# Altium schematic symbol library Converter_DCDC.SchLib: 947 symbols (part 2 of 12)
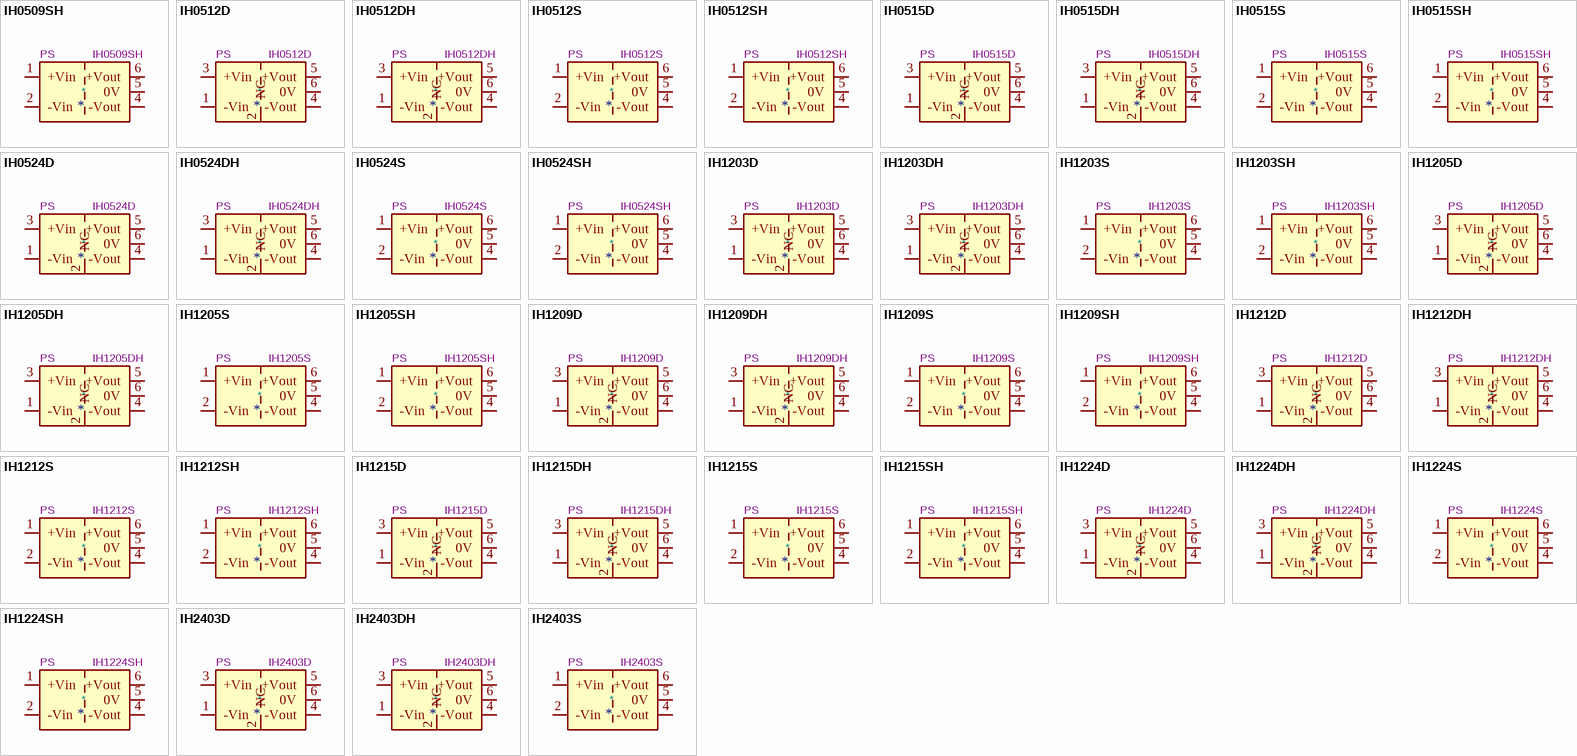
[diagram p24: symbols IH0509SH to IH2403S]

## IH0524S
designator *  value IH0524S  Reference: PS
XP Power 2W, 1000 VDC Isolated DC/DC Converter Module, Dual Output Voltage ±24V, ±42mA, 5V Input Voltage, SIP; ki_keywords: XP_POWER DC/DC isolated Converter module; ki_fp_filters: *XP?POWER?IHxxxxS*; Footprint: Converter_DCDC:Converter_DCDC_XP_POWER-IHxxxxS_THT; Datasheet: https://www.xppower.com/pdfs/SF_IH.pdf; Description_: XP Power 2W, 1000 VDC Isolated DC/DC Converter Module, Dual Output Voltage ±24V, ±42mA, 5V Input Voltage, SIP
pins: 1 +Vin, 2 -Vin, 4 -Vout, 5 0V, 6 +Vout

## IH0524SH
designator *  value IH0524SH  Reference: PS
XP Power 2W, 3000-6000 VDC Isolated DC/DC Converter Module, Dual Output Voltage ±24V, ±42mA, 5V Input Voltage, SIP; ki_keywords: XP_POWER DC/DC isolated Converter module; ki_fp_filters: *XP?POWER?IHxxxxSH*; Footprint: Converter_DCDC:Converter_DCDC_XP_POWER-IHxxxxSH_THT; Datasheet: https://www.xppower.com/pdfs/SF_IH.pdf; Description_: XP Power 2W, 3000-6000 VDC Isolated DC/DC Converter Module, Dual Output Voltage ±24V, ±42mA, 5V Input Voltage, SIP
pins: 1 +Vin, 2 -Vin, 4 -Vout, 5 0V, 6 +Vout

## IH1203D
designator *  value IH1203D  Reference: PS
XP Power 2W, 1000 VDC Isolated DC/DC Converter Module, Dual Output Voltage ±3.3V, ±200mA, 12V Input Voltage, DIP; ki_keywords: XP_POWER DC/DC isolated Converter module; ki_fp_filters: *XP?POWER?IHxxxxD*; Footprint: Converter_DCDC:Converter_DCDC_XP_POWER-IHxxxxD_THT; Datasheet: https://www.xppower.com/pdfs/SF_IH.pdf; Description_: XP Power 2W, 1000 VDC Isolated DC/DC Converter Module, Dual Output Voltage ±3.3V, ±200mA, 12V Input Voltage, DIP
pins: 1 -Vin, 2 NC, 3 +Vin, 4 -Vout, 5 +Vout, 6 0V

## IH1203DH
designator *  value IH1203DH  Reference: PS
XP Power 2W, 3000-6000 VDC Isolated DC/DC Converter Module, Dual Output Voltage ±3.3V, ±200mA, 12V Input Voltage, DIP; ki_keywords: XP_POWER DC/DC isolated Converter module; ki_fp_filters: *XP?POWER?IHxxxxDH*; Footprint: Converter_DCDC:Converter_DCDC_XP_POWER-IHxxxxDH_THT; Datasheet: https://www.xppower.com/pdfs/SF_IH.pdf; Description_: XP Power 2W, 3000-6000 VDC Isolated DC/DC Converter Module, Dual Output Voltage ±3.3V, ±200mA, 12V Input Voltage, DIP
pins: 1 -Vin, 2 NC, 3 +Vin, 4 -Vout, 5 +Vout, 6 0V

## IH1203S
designator *  value IH1203S  Reference: PS
XP Power 2W, 1000 VDC Isolated DC/DC Converter Module, Dual Output Voltage ±3.3V, ±200mA, 12V Input Voltage, SIP; ki_keywords: XP_POWER DC/DC isolated Converter module; ki_fp_filters: *XP?POWER?IHxxxxS*; Footprint: Converter_DCDC:Converter_DCDC_XP_POWER-IHxxxxS_THT; Datasheet: https://www.xppower.com/pdfs/SF_IH.pdf; Description_: XP Power 2W, 1000 VDC Isolated DC/DC Converter Module, Dual Output Voltage ±3.3V, ±200mA, 12V Input Voltage, SIP
pins: 1 +Vin, 2 -Vin, 4 -Vout, 5 0V, 6 +Vout

## IH1203SH
designator *  value IH1203SH  Reference: PS
XP Power 2W, 3000-6000 VDC Isolated DC/DC Converter Module, Dual Output Voltage ±3.3V, ±200mA, 12V Input Voltage, SIP; ki_keywords: XP_POWER DC/DC isolated Converter module; ki_fp_filters: *XP?POWER?IHxxxxSH*; Footprint: Converter_DCDC:Converter_DCDC_XP_POWER-IHxxxxSH_THT; Datasheet: https://www.xppower.com/pdfs/SF_IH.pdf; Description_: XP Power 2W, 3000-6000 VDC Isolated DC/DC Converter Module, Dual Output Voltage ±3.3V, ±200mA, 12V Input Voltage, SIP
pins: 1 +Vin, 2 -Vin, 4 -Vout, 5 0V, 6 +Vout

## IH1205D
designator *  value IH1205D  Reference: PS
XP Power 2W, 1000 VDC Isolated DC/DC Converter Module, Dual Output Voltage ±5V, ±200mA, 12V Input Voltage, DIP; ki_keywords: XP_POWER DC/DC isolated Converter module; ki_fp_filters: *XP?POWER?IHxxxxD*; Footprint: Converter_DCDC:Converter_DCDC_XP_POWER-IHxxxxD_THT; Datasheet: https://www.xppower.com/pdfs/SF_IH.pdf; Description_: XP Power 2W, 1000 VDC Isolated DC/DC Converter Module, Dual Output Voltage ±5V, ±200mA, 12V Input Voltage, DIP
pins: 1 -Vin, 2 NC, 3 +Vin, 4 -Vout, 5 +Vout, 6 0V

## IH1205DH
designator *  value IH1205DH  Reference: PS
XP Power 2W, 3000-6000 VDC Isolated DC/DC Converter Module, Dual Output Voltage ±5V, ±200mA, 12V Input Voltage, DIP; ki_keywords: XP_POWER DC/DC isolated Converter module; ki_fp_filters: *XP?POWER?IHxxxxDH*; Footprint: Converter_DCDC:Converter_DCDC_XP_POWER-IHxxxxDH_THT; Datasheet: https://www.xppower.com/pdfs/SF_IH.pdf; Description_: XP Power 2W, 3000-6000 VDC Isolated DC/DC Converter Module, Dual Output Voltage ±5V, ±200mA, 12V Input Voltage, DIP
pins: 1 -Vin, 2 NC, 3 +Vin, 4 -Vout, 5 +Vout, 6 0V

## IH1205S
designator *  value IH1205S  Reference: PS
XP Power 2W, 1000 VDC Isolated DC/DC Converter Module, Dual Output Voltage ±5V, ±200mA, 12V Input Voltage, SIP; ki_keywords: XP_POWER DC/DC isolated Converter module; ki_fp_filters: *XP?POWER?IHxxxxS*; Footprint: Converter_DCDC:Converter_DCDC_XP_POWER-IHxxxxS_THT; Datasheet: https://www.xppower.com/pdfs/SF_IH.pdf; Description_: XP Power 2W, 1000 VDC Isolated DC/DC Converter Module, Dual Output Voltage ±5V, ±200mA, 12V Input Voltage, SIP
pins: 1 +Vin, 2 -Vin, 4 -Vout, 5 0V, 6 +Vout

## IH1205SH
designator *  value IH1205SH  Reference: PS
XP Power 2W, 3000-6000 VDC Isolated DC/DC Converter Module, Dual Output Voltage ±5V, ±200mA, 12V Input Voltage, SIP; ki_keywords: XP_POWER DC/DC isolated Converter module; ki_fp_filters: *XP?POWER?IHxxxxSH*; Footprint: Converter_DCDC:Converter_DCDC_XP_POWER-IHxxxxSH_THT; Datasheet: https://www.xppower.com/pdfs/SF_IH.pdf; Description_: XP Power 2W, 3000-6000 VDC Isolated DC/DC Converter Module, Dual Output Voltage ±5V, ±200mA, 12V Input Voltage, SIP
pins: 1 +Vin, 2 -Vin, 4 -Vout, 5 0V, 6 +Vout

## IH1209D
designator *  value IH1209D  Reference: PS
XP Power 2W, 1000 VDC Isolated DC/DC Converter Module, Dual Output Voltage ±9V, ±111mA, 12V Input Voltage, DIP; ki_keywords: XP_POWER DC/DC isolated Converter module; ki_fp_filters: *XP?POWER?IHxxxxD*; Footprint: Converter_DCDC:Converter_DCDC_XP_POWER-IHxxxxD_THT; Datasheet: https://www.xppower.com/pdfs/SF_IH.pdf; Description_: XP Power 2W, 1000 VDC Isolated DC/DC Converter Module, Dual Output Voltage ±9V, ±111mA, 12V Input Voltage, DIP
pins: 1 -Vin, 2 NC, 3 +Vin, 4 -Vout, 5 +Vout, 6 0V

## IH1209DH
designator *  value IH1209DH  Reference: PS
XP Power 2W, 3000-6000 VDC Isolated DC/DC Converter Module, Dual Output Voltage ±9V, ±111mA, 12V Input Voltage, DIP; ki_keywords: XP_POWER DC/DC isolated Converter module; ki_fp_filters: *XP?POWER?IHxxxxDH*; Footprint: Converter_DCDC:Converter_DCDC_XP_POWER-IHxxxxDH_THT; Datasheet: https://www.xppower.com/pdfs/SF_IH.pdf; Description_: XP Power 2W, 3000-6000 VDC Isolated DC/DC Converter Module, Dual Output Voltage ±9V, ±111mA, 12V Input Voltage, DIP
pins: 1 -Vin, 2 NC, 3 +Vin, 4 -Vout, 5 +Vout, 6 0V

## IH1209S
designator *  value IH1209S  Reference: PS
XP Power 2W, 1000 VDC Isolated DC/DC Converter Module, Dual Output Voltage ±9V, ±111mA, 12V Input Voltage, SIP; ki_keywords: XP_POWER DC/DC isolated Converter module; ki_fp_filters: *XP?POWER?IHxxxxS*; Footprint: Converter_DCDC:Converter_DCDC_XP_POWER-IHxxxxS_THT; Datasheet: https://www.xppower.com/pdfs/SF_IH.pdf; Description_: XP Power 2W, 1000 VDC Isolated DC/DC Converter Module, Dual Output Voltage ±9V, ±111mA, 12V Input Voltage, SIP
pins: 1 +Vin, 2 -Vin, 4 -Vout, 5 0V, 6 +Vout

## IH1209SH
designator *  value IH1209SH  Reference: PS
XP Power 2W, 3000-6000 VDC Isolated DC/DC Converter Module, Dual Output Voltage ±9V, ±111mA, 12V Input Voltage, SIP; ki_keywords: XP_POWER DC/DC isolated Converter module; ki_fp_filters: *XP?POWER?IHxxxxSH*; Footprint: Converter_DCDC:Converter_DCDC_XP_POWER-IHxxxxSH_THT; Datasheet: https://www.xppower.com/pdfs/SF_IH.pdf; Description_: XP Power 2W, 3000-6000 VDC Isolated DC/DC Converter Module, Dual Output Voltage ±9V, ±111mA, 12V Input Voltage, SIP
pins: 1 +Vin, 2 -Vin, 4 -Vout, 5 0V, 6 +Vout

## IH1212D
designator *  value IH1212D  Reference: PS
XP Power 2W, 1000 VDC Isolated DC/DC Converter Module, Dual Output Voltage ±12V, ±84mA, 12V Input Voltage, DIP; ki_keywords: XP_POWER DC/DC isolated Converter module; ki_fp_filters: *XP?POWER?IHxxxxD*; Footprint: Converter_DCDC:Converter_DCDC_XP_POWER-IHxxxxD_THT; Datasheet: https://www.xppower.com/pdfs/SF_IH.pdf; Description_: XP Power 2W, 1000 VDC Isolated DC/DC Converter Module, Dual Output Voltage ±12V, ±84mA, 12V Input Voltage, DIP
pins: 1 -Vin, 2 NC, 3 +Vin, 4 -Vout, 5 +Vout, 6 0V

## IH1212DH
designator *  value IH1212DH  Reference: PS
XP Power 2W, 3000-6000 VDC Isolated DC/DC Converter Module, Dual Output Voltage ±12V, ±84mA, 12V Input Voltage, DIP; ki_keywords: XP_POWER DC/DC isolated Converter module; ki_fp_filters: *XP?POWER?IHxxxxDH*; Footprint: Converter_DCDC:Converter_DCDC_XP_POWER-IHxxxxDH_THT; Datasheet: https://www.xppower.com/pdfs/SF_IH.pdf; Description_: XP Power 2W, 3000-6000 VDC Isolated DC/DC Converter Module, Dual Output Voltage ±12V, ±84mA, 12V Input Voltage, DIP
pins: 1 -Vin, 2 NC, 3 +Vin, 4 -Vout, 5 +Vout, 6 0V

## IH1212S
designator *  value IH1212S  Reference: PS
XP Power 2W, 1000 VDC Isolated DC/DC Converter Module, Dual Output Voltage ±12V, ±84mA, 12V Input Voltage, SIP; ki_keywords: XP_POWER DC/DC isolated Converter module; ki_fp_filters: *XP?POWER?IHxxxxS*; Footprint: Converter_DCDC:Converter_DCDC_XP_POWER-IHxxxxS_THT; Datasheet: https://www.xppower.com/pdfs/SF_IH.pdf; Description_: XP Power 2W, 1000 VDC Isolated DC/DC Converter Module, Dual Output Voltage ±12V, ±84mA, 12V Input Voltage, SIP
pins: 1 +Vin, 2 -Vin, 4 -Vout, 5 0V, 6 +Vout

## IH1212SH
designator *  value IH1212SH  Reference: PS
XP Power 2W, 3000-6000 VDC Isolated DC/DC Converter Module, Dual Output Voltage ±12V, ±84mA, 12V Input Voltage, SIP; ki_keywords: XP_POWER DC/DC isolated Converter module; ki_fp_filters: *XP?POWER?IHxxxxSH*; Footprint: Converter_DCDC:Converter_DCDC_XP_POWER-IHxxxxSH_THT; Datasheet: https://www.xppower.com/pdfs/SF_IH.pdf; Description_: XP Power 2W, 3000-6000 VDC Isolated DC/DC Converter Module, Dual Output Voltage ±12V, ±84mA, 12V Input Voltage, SIP
pins: 1 +Vin, 2 -Vin, 4 -Vout, 5 0V, 6 +Vout

## IH1215D
designator *  value IH1215D  Reference: PS
XP Power 2W, 1000 VDC Isolated DC/DC Converter Module, Dual Output Voltage ±15V, ±66mA, 12V Input Voltage, DIP; ki_keywords: XP_POWER DC/DC isolated Converter module; ki_fp_filters: *XP?POWER?IHxxxxD*; Footprint: Converter_DCDC:Converter_DCDC_XP_POWER-IHxxxxD_THT; Datasheet: https://www.xppower.com/pdfs/SF_IH.pdf; Description_: XP Power 2W, 1000 VDC Isolated DC/DC Converter Module, Dual Output Voltage ±15V, ±66mA, 12V Input Voltage, DIP
pins: 1 -Vin, 2 NC, 3 +Vin, 4 -Vout, 5 +Vout, 6 0V

## IH1215DH
designator *  value IH1215DH  Reference: PS
XP Power 2W, 3000-6000 VDC Isolated DC/DC Converter Module, Dual Output Voltage ±15V, ±66mA, 12V Input Voltage, DIP; ki_keywords: XP_POWER DC/DC isolated Converter module; ki_fp_filters: *XP?POWER?IHxxxxDH*; Footprint: Converter_DCDC:Converter_DCDC_XP_POWER-IHxxxxDH_THT; Datasheet: https://www.xppower.com/pdfs/SF_IH.pdf; Description_: XP Power 2W, 3000-6000 VDC Isolated DC/DC Converter Module, Dual Output Voltage ±15V, ±66mA, 12V Input Voltage, DIP
pins: 1 -Vin, 2 NC, 3 +Vin, 4 -Vout, 5 +Vout, 6 0V

## IH1215S
designator *  value IH1215S  Reference: PS
XP Power 2W, 1000 VDC Isolated DC/DC Converter Module, Dual Output Voltage ±15V, ±66mA, 12V Input Voltage, SIP; ki_keywords: XP_POWER DC/DC isolated Converter module; ki_fp_filters: *XP?POWER?IHxxxxS*; Footprint: Converter_DCDC:Converter_DCDC_XP_POWER-IHxxxxS_THT; Datasheet: https://www.xppower.com/pdfs/SF_IH.pdf; Description_: XP Power 2W, 1000 VDC Isolated DC/DC Converter Module, Dual Output Voltage ±15V, ±66mA, 12V Input Voltage, SIP
pins: 1 +Vin, 2 -Vin, 4 -Vout, 5 0V, 6 +Vout

## IH1215SH
designator *  value IH1215SH  Reference: PS
XP Power 2W, 3000-6000 VDC Isolated DC/DC Converter Module, Dual Output Voltage ±15V, ±66mA, 12V Input Voltage, SIP; ki_keywords: XP_POWER DC/DC isolated Converter module; ki_fp_filters: *XP?POWER?IHxxxxSH*; Footprint: Converter_DCDC:Converter_DCDC_XP_POWER-IHxxxxSH_THT; Datasheet: https://www.xppower.com/pdfs/SF_IH.pdf; Description_: XP Power 2W, 3000-6000 VDC Isolated DC/DC Converter Module, Dual Output Voltage ±15V, ±66mA, 12V Input Voltage, SIP
pins: 1 +Vin, 2 -Vin, 4 -Vout, 5 0V, 6 +Vout

## IH1224D
designator *  value IH1224D  Reference: PS
XP Power 2W, 1000 VDC Isolated DC/DC Converter Module, Dual Output Voltage ±24V, ±42mA, 12V Input Voltage, DIP; ki_keywords: XP_POWER DC/DC isolated Converter module; ki_fp_filters: *XP?POWER?IHxxxxD*; Footprint: Converter_DCDC:Converter_DCDC_XP_POWER-IHxxxxD_THT; Datasheet: https://www.xppower.com/pdfs/SF_IH.pdf; Description_: XP Power 2W, 1000 VDC Isolated DC/DC Converter Module, Dual Output Voltage ±24V, ±42mA, 12V Input Voltage, DIP
pins: 1 -Vin, 2 NC, 3 +Vin, 4 -Vout, 5 +Vout, 6 0V

## IH1224DH
designator *  value IH1224DH  Reference: PS
XP Power 2W, 3000-6000 VDC Isolated DC/DC Converter Module, Dual Output Voltage ±24V, ±42mA, 12V Input Voltage, DIP; ki_keywords: XP_POWER DC/DC isolated Converter module; ki_fp_filters: *XP?POWER?IHxxxxDH*; Footprint: Converter_DCDC:Converter_DCDC_XP_POWER-IHxxxxDH_THT; Datasheet: https://www.xppower.com/pdfs/SF_IH.pdf; Description_: XP Power 2W, 3000-6000 VDC Isolated DC/DC Converter Module, Dual Output Voltage ±24V, ±42mA, 12V Input Voltage, DIP
pins: 1 -Vin, 2 NC, 3 +Vin, 4 -Vout, 5 +Vout, 6 0V

## IH1224S
designator *  value IH1224S  Reference: PS
XP Power 2W, 1000 VDC Isolated DC/DC Converter Module, Dual Output Voltage ±24V, ±42mA, 12V Input Voltage, SIP; ki_keywords: XP_POWER DC/DC isolated Converter module; ki_fp_filters: *XP?POWER?IHxxxxS*; Footprint: Converter_DCDC:Converter_DCDC_XP_POWER-IHxxxxS_THT; Datasheet: https://www.xppower.com/pdfs/SF_IH.pdf; Description_: XP Power 2W, 1000 VDC Isolated DC/DC Converter Module, Dual Output Voltage ±24V, ±42mA, 12V Input Voltage, SIP
pins: 1 +Vin, 2 -Vin, 4 -Vout, 5 0V, 6 +Vout

## IH1224SH
designator *  value IH1224SH  Reference: PS
XP Power 2W, 3000-6000 VDC Isolated DC/DC Converter Module, Dual Output Voltage ±24V, ±42mA, 12V Input Voltage, SIP; ki_keywords: XP_POWER DC/DC isolated Converter module; ki_fp_filters: *XP?POWER?IHxxxxSH*; Footprint: Converter_DCDC:Converter_DCDC_XP_POWER-IHxxxxSH_THT; Datasheet: https://www.xppower.com/pdfs/SF_IH.pdf; Description_: XP Power 2W, 3000-6000 VDC Isolated DC/DC Converter Module, Dual Output Voltage ±24V, ±42mA, 12V Input Voltage, SIP
pins: 1 +Vin, 2 -Vin, 4 -Vout, 5 0V, 6 +Vout

## IH2403D
designator *  value IH2403D  Reference: PS
XP Power 2W, 1000 VDC Isolated DC/DC Converter Module, Dual Output Voltage ±3.3V, ±200mA, 24V Input Voltage, DIP; ki_keywords: XP_POWER DC/DC isolated Converter module; ki_fp_filters: *XP?POWER?IHxxxxD*; Footprint: Converter_DCDC:Converter_DCDC_XP_POWER-IHxxxxD_THT; Datasheet: https://www.xppower.com/pdfs/SF_IH.pdf; Description_: XP Power 2W, 1000 VDC Isolated DC/DC Converter Module, Dual Output Voltage ±3.3V, ±200mA, 24V Input Voltage, DIP
pins: 1 -Vin, 2 NC, 3 +Vin, 4 -Vout, 5 +Vout, 6 0V

## IH2403DH
designator *  value IH2403DH  Reference: PS
XP Power 2W, 3000-6000 VDC Isolated DC/DC Converter Module, Dual Output Voltage ±3.3V, ±200mA, 24V Input Voltage, DIP; ki_keywords: XP_POWER DC/DC isolated Converter module; ki_fp_filters: *XP?POWER?IHxxxxDH*; Footprint: Converter_DCDC:Converter_DCDC_XP_POWER-IHxxxxDH_THT; Datasheet: https://www.xppower.com/pdfs/SF_IH.pdf; Description_: XP Power 2W, 3000-6000 VDC Isolated DC/DC Converter Module, Dual Output Voltage ±3.3V, ±200mA, 24V Input Voltage, DIP
pins: 1 -Vin, 2 NC, 3 +Vin, 4 -Vout, 5 +Vout, 6 0V

## IH2403S
designator *  value IH2403S  Reference: PS
XP Power 2W, 1000 VDC Isolated DC/DC Converter Module, Dual Output Voltage ±3.3V, ±200mA, 24V Input Voltage, SIP; ki_keywords: XP_POWER DC/DC isolated Converter module; ki_fp_filters: *XP?POWER?IHxxxxS*; Footprint: Converter_DCDC:Converter_DCDC_XP_POWER-IHxxxxS_THT; Datasheet: https://www.xppower.com/pdfs/SF_IH.pdf; Description_: XP Power 2W, 1000 VDC Isolated DC/DC Converter Module, Dual Output Voltage ±3.3V, ±200mA, 24V Input Voltage, SIP
pins: 1 +Vin, 2 -Vin, 4 -Vout, 5 0V, 6 +Vout

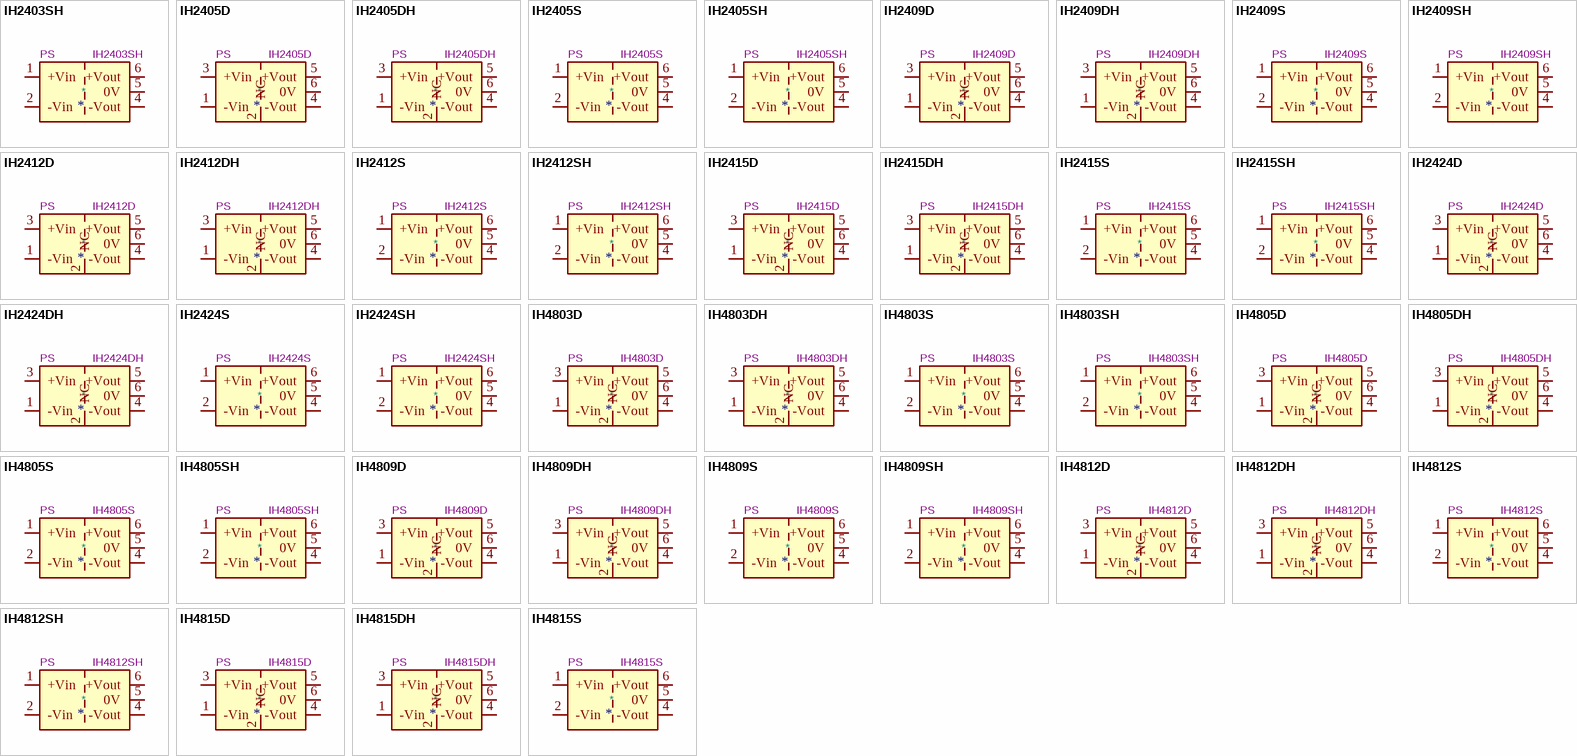
[diagram p3: symbols IH2403SH to IH4815S]

## IH2403SH
designator *  value IH2403SH  Reference: PS
XP Power 2W, 3000-6000 VDC Isolated DC/DC Converter Module, Dual Output Voltage ±3.3V, ±200mA, 24V Input Voltage, SIP; ki_keywords: XP_POWER DC/DC isolated Converter module; ki_fp_filters: *XP?POWER?IHxxxxSH*; Footprint: Converter_DCDC:Converter_DCDC_XP_POWER-IHxxxxSH_THT; Datasheet: https://www.xppower.com/pdfs/SF_IH.pdf; Description_: XP Power 2W, 3000-6000 VDC Isolated DC/DC Converter Module, Dual Output Voltage ±3.3V, ±200mA, 24V Input Voltage, SIP
pins: 1 +Vin, 2 -Vin, 4 -Vout, 5 0V, 6 +Vout

## IH2405D
designator *  value IH2405D  Reference: PS
XP Power 2W, 1000 VDC Isolated DC/DC Converter Module, Dual Output Voltage ±5V, ±200mA, 24V Input Voltage, DIP; ki_keywords: XP_POWER DC/DC isolated Converter module; ki_fp_filters: *XP?POWER?IHxxxxD*; Footprint: Converter_DCDC:Converter_DCDC_XP_POWER-IHxxxxD_THT; Datasheet: https://www.xppower.com/pdfs/SF_IH.pdf; Description_: XP Power 2W, 1000 VDC Isolated DC/DC Converter Module, Dual Output Voltage ±5V, ±200mA, 24V Input Voltage, DIP
pins: 1 -Vin, 2 NC, 3 +Vin, 4 -Vout, 5 +Vout, 6 0V

## IH2405DH
designator *  value IH2405DH  Reference: PS
XP Power 2W, 3000-6000 VDC Isolated DC/DC Converter Module, Dual Output Voltage ±5V, ±200mA, 24V Input Voltage, DIP; ki_keywords: XP_POWER DC/DC isolated Converter module; ki_fp_filters: *XP?POWER?IHxxxxDH*; Footprint: Converter_DCDC:Converter_DCDC_XP_POWER-IHxxxxDH_THT; Datasheet: https://www.xppower.com/pdfs/SF_IH.pdf; Description_: XP Power 2W, 3000-6000 VDC Isolated DC/DC Converter Module, Dual Output Voltage ±5V, ±200mA, 24V Input Voltage, DIP
pins: 1 -Vin, 2 NC, 3 +Vin, 4 -Vout, 5 +Vout, 6 0V

## IH2405S
designator *  value IH2405S  Reference: PS
XP Power 2W, 1000 VDC Isolated DC/DC Converter Module, Dual Output Voltage ±5V, ±200mA, 24V Input Voltage, SIP; ki_keywords: XP_POWER DC/DC isolated Converter module; ki_fp_filters: *XP?POWER?IHxxxxS*; Footprint: Converter_DCDC:Converter_DCDC_XP_POWER-IHxxxxS_THT; Datasheet: https://www.xppower.com/pdfs/SF_IH.pdf; Description_: XP Power 2W, 1000 VDC Isolated DC/DC Converter Module, Dual Output Voltage ±5V, ±200mA, 24V Input Voltage, SIP
pins: 1 +Vin, 2 -Vin, 4 -Vout, 5 0V, 6 +Vout

## IH2405SH
designator *  value IH2405SH  Reference: PS
XP Power 2W, 3000-6000 VDC Isolated DC/DC Converter Module, Dual Output Voltage ±5V, ±200mA, 24V Input Voltage, SIP; ki_keywords: XP_POWER DC/DC isolated Converter module; ki_fp_filters: *XP?POWER?IHxxxxSH*; Footprint: Converter_DCDC:Converter_DCDC_XP_POWER-IHxxxxSH_THT; Datasheet: https://www.xppower.com/pdfs/SF_IH.pdf; Description_: XP Power 2W, 3000-6000 VDC Isolated DC/DC Converter Module, Dual Output Voltage ±5V, ±200mA, 24V Input Voltage, SIP
pins: 1 +Vin, 2 -Vin, 4 -Vout, 5 0V, 6 +Vout

## IH2409D
designator *  value IH2409D  Reference: PS
XP Power 2W, 1000 VDC Isolated DC/DC Converter Module, Dual Output Voltage ±9V, ±111mA, 24V Input Voltage, DIP; ki_keywords: XP_POWER DC/DC isolated Converter module; ki_fp_filters: *XP?POWER?IHxxxxD*; Footprint: Converter_DCDC:Converter_DCDC_XP_POWER-IHxxxxD_THT; Datasheet: https://www.xppower.com/pdfs/SF_IH.pdf; Description_: XP Power 2W, 1000 VDC Isolated DC/DC Converter Module, Dual Output Voltage ±9V, ±111mA, 24V Input Voltage, DIP
pins: 1 -Vin, 2 NC, 3 +Vin, 4 -Vout, 5 +Vout, 6 0V

## IH2409DH
designator *  value IH2409DH  Reference: PS
XP Power 2W, 3000-6000 VDC Isolated DC/DC Converter Module, Dual Output Voltage ±9V, ±111mA, 24V Input Voltage, DIP; ki_keywords: XP_POWER DC/DC isolated Converter module; ki_fp_filters: *XP?POWER?IHxxxxDH*; Footprint: Converter_DCDC:Converter_DCDC_XP_POWER-IHxxxxDH_THT; Datasheet: https://www.xppower.com/pdfs/SF_IH.pdf; Description_: XP Power 2W, 3000-6000 VDC Isolated DC/DC Converter Module, Dual Output Voltage ±9V, ±111mA, 24V Input Voltage, DIP
pins: 1 -Vin, 2 NC, 3 +Vin, 4 -Vout, 5 +Vout, 6 0V

## IH2409S
designator *  value IH2409S  Reference: PS
XP Power 2W, 1000 VDC Isolated DC/DC Converter Module, Dual Output Voltage ±9V, ±111mA, 24V Input Voltage, SIP; ki_keywords: XP_POWER DC/DC isolated Converter module; ki_fp_filters: *XP?POWER?IHxxxxS*; Footprint: Converter_DCDC:Converter_DCDC_XP_POWER-IHxxxxS_THT; Datasheet: https://www.xppower.com/pdfs/SF_IH.pdf; Description_: XP Power 2W, 1000 VDC Isolated DC/DC Converter Module, Dual Output Voltage ±9V, ±111mA, 24V Input Voltage, SIP
pins: 1 +Vin, 2 -Vin, 4 -Vout, 5 0V, 6 +Vout

## IH2409SH
designator *  value IH2409SH  Reference: PS
XP Power 2W, 3000-6000 VDC Isolated DC/DC Converter Module, Dual Output Voltage ±9V, ±111mA, 24V Input Voltage, SIP; ki_keywords: XP_POWER DC/DC isolated Converter module; ki_fp_filters: *XP?POWER?IHxxxxSH*; Footprint: Converter_DCDC:Converter_DCDC_XP_POWER-IHxxxxSH_THT; Datasheet: https://www.xppower.com/pdfs/SF_IH.pdf; Description_: XP Power 2W, 3000-6000 VDC Isolated DC/DC Converter Module, Dual Output Voltage ±9V, ±111mA, 24V Input Voltage, SIP
pins: 1 +Vin, 2 -Vin, 4 -Vout, 5 0V, 6 +Vout

## IH2412D
designator *  value IH2412D  Reference: PS
XP Power 2W, 1000 VDC Isolated DC/DC Converter Module, Dual Output Voltage ±12V, ±84mA, 24V Input Voltage, DIP; ki_keywords: XP_POWER DC/DC isolated Converter module; ki_fp_filters: *XP?POWER?IHxxxxD*; Footprint: Converter_DCDC:Converter_DCDC_XP_POWER-IHxxxxD_THT; Datasheet: https://www.xppower.com/pdfs/SF_IH.pdf; Description_: XP Power 2W, 1000 VDC Isolated DC/DC Converter Module, Dual Output Voltage ±12V, ±84mA, 24V Input Voltage, DIP
pins: 1 -Vin, 2 NC, 3 +Vin, 4 -Vout, 5 +Vout, 6 0V

## IH2412DH
designator *  value IH2412DH  Reference: PS
XP Power 2W, 3000-6000 VDC Isolated DC/DC Converter Module, Dual Output Voltage ±12V, ±84mA, 24V Input Voltage, DIP; ki_keywords: XP_POWER DC/DC isolated Converter module; ki_fp_filters: *XP?POWER?IHxxxxDH*; Footprint: Converter_DCDC:Converter_DCDC_XP_POWER-IHxxxxDH_THT; Datasheet: https://www.xppower.com/pdfs/SF_IH.pdf; Description_: XP Power 2W, 3000-6000 VDC Isolated DC/DC Converter Module, Dual Output Voltage ±12V, ±84mA, 24V Input Voltage, DIP
pins: 1 -Vin, 2 NC, 3 +Vin, 4 -Vout, 5 +Vout, 6 0V

## IH2412S
designator *  value IH2412S  Reference: PS
XP Power 2W, 1000 VDC Isolated DC/DC Converter Module, Dual Output Voltage ±12V, ±84mA, 24V Input Voltage, SIP; ki_keywords: XP_POWER DC/DC isolated Converter module; ki_fp_filters: *XP?POWER?IHxxxxS*; Footprint: Converter_DCDC:Converter_DCDC_XP_POWER-IHxxxxS_THT; Datasheet: https://www.xppower.com/pdfs/SF_IH.pdf; Description_: XP Power 2W, 1000 VDC Isolated DC/DC Converter Module, Dual Output Voltage ±12V, ±84mA, 24V Input Voltage, SIP
pins: 1 +Vin, 2 -Vin, 4 -Vout, 5 0V, 6 +Vout

## IH2412SH
designator *  value IH2412SH  Reference: PS
XP Power 2W, 3000-6000 VDC Isolated DC/DC Converter Module, Dual Output Voltage ±12V, ±84mA, 24V Input Voltage, SIP; ki_keywords: XP_POWER DC/DC isolated Converter module; ki_fp_filters: *XP?POWER?IHxxxxSH*; Footprint: Converter_DCDC:Converter_DCDC_XP_POWER-IHxxxxSH_THT; Datasheet: https://www.xppower.com/pdfs/SF_IH.pdf; Description_: XP Power 2W, 3000-6000 VDC Isolated DC/DC Converter Module, Dual Output Voltage ±12V, ±84mA, 24V Input Voltage, SIP
pins: 1 +Vin, 2 -Vin, 4 -Vout, 5 0V, 6 +Vout

## IH2415D
designator *  value IH2415D  Reference: PS
XP Power 2W, 1000 VDC Isolated DC/DC Converter Module, Dual Output Voltage ±15V, ±66mA, 24V Input Voltage, DIP; ki_keywords: XP_POWER DC/DC isolated Converter module; ki_fp_filters: *XP?POWER?IHxxxxD*; Footprint: Converter_DCDC:Converter_DCDC_XP_POWER-IHxxxxD_THT; Datasheet: https://www.xppower.com/pdfs/SF_IH.pdf; Description_: XP Power 2W, 1000 VDC Isolated DC/DC Converter Module, Dual Output Voltage ±15V, ±66mA, 24V Input Voltage, DIP
pins: 1 -Vin, 2 NC, 3 +Vin, 4 -Vout, 5 +Vout, 6 0V

## IH2415DH
designator *  value IH2415DH  Reference: PS
XP Power 2W, 3000-6000 VDC Isolated DC/DC Converter Module, Dual Output Voltage ±15V, ±66mA, 24V Input Voltage, DIP; ki_keywords: XP_POWER DC/DC isolated Converter module; ki_fp_filters: *XP?POWER?IHxxxxDH*; Footprint: Converter_DCDC:Converter_DCDC_XP_POWER-IHxxxxDH_THT; Datasheet: https://www.xppower.com/pdfs/SF_IH.pdf; Description_: XP Power 2W, 3000-6000 VDC Isolated DC/DC Converter Module, Dual Output Voltage ±15V, ±66mA, 24V Input Voltage, DIP
pins: 1 -Vin, 2 NC, 3 +Vin, 4 -Vout, 5 +Vout, 6 0V

## IH2415S
designator *  value IH2415S  Reference: PS
XP Power 2W, 1000 VDC Isolated DC/DC Converter Module, Dual Output Voltage ±15V, ±66mA, 24V Input Voltage, SIP; ki_keywords: XP_POWER DC/DC isolated Converter module; ki_fp_filters: *XP?POWER?IHxxxxS*; Footprint: Converter_DCDC:Converter_DCDC_XP_POWER-IHxxxxS_THT; Datasheet: https://www.xppower.com/pdfs/SF_IH.pdf; Description_: XP Power 2W, 1000 VDC Isolated DC/DC Converter Module, Dual Output Voltage ±15V, ±66mA, 24V Input Voltage, SIP
pins: 1 +Vin, 2 -Vin, 4 -Vout, 5 0V, 6 +Vout

## IH2415SH
designator *  value IH2415SH  Reference: PS
XP Power 2W, 3000-6000 VDC Isolated DC/DC Converter Module, Dual Output Voltage ±15V, ±66mA, 24V Input Voltage, SIP; ki_keywords: XP_POWER DC/DC isolated Converter module; ki_fp_filters: *XP?POWER?IHxxxxSH*; Footprint: Converter_DCDC:Converter_DCDC_XP_POWER-IHxxxxSH_THT; Datasheet: https://www.xppower.com/pdfs/SF_IH.pdf; Description_: XP Power 2W, 3000-6000 VDC Isolated DC/DC Converter Module, Dual Output Voltage ±15V, ±66mA, 24V Input Voltage, SIP
pins: 1 +Vin, 2 -Vin, 4 -Vout, 5 0V, 6 +Vout

## IH2424D
designator *  value IH2424D  Reference: PS
XP Power 2W, 1000 VDC Isolated DC/DC Converter Module, Dual Output Voltage ±24V, ±42mA, 24V Input Voltage, DIP; ki_keywords: XP_POWER DC/DC isolated Converter module; ki_fp_filters: *XP?POWER?IHxxxxD*; Footprint: Converter_DCDC:Converter_DCDC_XP_POWER-IHxxxxD_THT; Datasheet: https://www.xppower.com/pdfs/SF_IH.pdf; Description_: XP Power 2W, 1000 VDC Isolated DC/DC Converter Module, Dual Output Voltage ±24V, ±42mA, 24V Input Voltage, DIP
pins: 1 -Vin, 2 NC, 3 +Vin, 4 -Vout, 5 +Vout, 6 0V

## IH2424DH
designator *  value IH2424DH  Reference: PS
XP Power 2W, 3000-6000 VDC Isolated DC/DC Converter Module, Dual Output Voltage ±24V, ±42mA, 24V Input Voltage, DIP; ki_keywords: XP_POWER DC/DC isolated Converter module; ki_fp_filters: *XP?POWER?IHxxxxDH*; Footprint: Converter_DCDC:Converter_DCDC_XP_POWER-IHxxxxDH_THT; Datasheet: https://www.xppower.com/pdfs/SF_IH.pdf; Description_: XP Power 2W, 3000-6000 VDC Isolated DC/DC Converter Module, Dual Output Voltage ±24V, ±42mA, 24V Input Voltage, DIP
pins: 1 -Vin, 2 NC, 3 +Vin, 4 -Vout, 5 +Vout, 6 0V

## IH2424S
designator *  value IH2424S  Reference: PS
XP Power 2W, 1000 VDC Isolated DC/DC Converter Module, Dual Output Voltage ±24V, ±42mA, 24V Input Voltage, SIP; ki_keywords: XP_POWER DC/DC isolated Converter module; ki_fp_filters: *XP?POWER?IHxxxxS*; Footprint: Converter_DCDC:Converter_DCDC_XP_POWER-IHxxxxS_THT; Datasheet: https://www.xppower.com/pdfs/SF_IH.pdf; Description_: XP Power 2W, 1000 VDC Isolated DC/DC Converter Module, Dual Output Voltage ±24V, ±42mA, 24V Input Voltage, SIP
pins: 1 +Vin, 2 -Vin, 4 -Vout, 5 0V, 6 +Vout

## IH2424SH
designator *  value IH2424SH  Reference: PS
XP Power 2W, 3000-6000 VDC Isolated DC/DC Converter Module, Dual Output Voltage ±24V, ±42mA, 24V Input Voltage, SIP; ki_keywords: XP_POWER DC/DC isolated Converter module; ki_fp_filters: *XP?POWER?IHxxxxSH*; Footprint: Converter_DCDC:Converter_DCDC_XP_POWER-IHxxxxSH_THT; Datasheet: https://www.xppower.com/pdfs/SF_IH.pdf; Description_: XP Power 2W, 3000-6000 VDC Isolated DC/DC Converter Module, Dual Output Voltage ±24V, ±42mA, 24V Input Voltage, SIP
pins: 1 +Vin, 2 -Vin, 4 -Vout, 5 0V, 6 +Vout

## IH4803D
designator *  value IH4803D  Reference: PS
XP Power 2W, 1000 VDC Isolated DC/DC Converter Module, Dual Output Voltage ±3.3V, ±200mA, 48V Input Voltage, DIP; ki_keywords: XP_POWER DC/DC isolated Converter module; ki_fp_filters: *XP?POWER?IHxxxxD*; Footprint: Converter_DCDC:Converter_DCDC_XP_POWER-IHxxxxD_THT; Datasheet: https://www.xppower.com/pdfs/SF_IH.pdf; Description_: XP Power 2W, 1000 VDC Isolated DC/DC Converter Module, Dual Output Voltage ±3.3V, ±200mA, 48V Input Voltage, DIP
pins: 1 -Vin, 2 NC, 3 +Vin, 4 -Vout, 5 +Vout, 6 0V

## IH4803DH
designator *  value IH4803DH  Reference: PS
XP Power 2W, 3000-6000 VDC Isolated DC/DC Converter Module, Dual Output Voltage ±3.3V, ±200mA, 48V Input Voltage, DIP; ki_keywords: XP_POWER DC/DC isolated Converter module; ki_fp_filters: *XP?POWER?IHxxxxDH*; Footprint: Converter_DCDC:Converter_DCDC_XP_POWER-IHxxxxDH_THT; Datasheet: https://www.xppower.com/pdfs/SF_IH.pdf; Description_: XP Power 2W, 3000-6000 VDC Isolated DC/DC Converter Module, Dual Output Voltage ±3.3V, ±200mA, 48V Input Voltage, DIP
pins: 1 -Vin, 2 NC, 3 +Vin, 4 -Vout, 5 +Vout, 6 0V

## IH4803S
designator *  value IH4803S  Reference: PS
XP Power 2W, 1000 VDC Isolated DC/DC Converter Module, Dual Output Voltage ±3.3V, ±200mA, 48V Input Voltage, SIP; ki_keywords: XP_POWER DC/DC isolated Converter module; ki_fp_filters: *XP?POWER?IHxxxxS*; Footprint: Converter_DCDC:Converter_DCDC_XP_POWER-IHxxxxS_THT; Datasheet: https://www.xppower.com/pdfs/SF_IH.pdf; Description_: XP Power 2W, 1000 VDC Isolated DC/DC Converter Module, Dual Output Voltage ±3.3V, ±200mA, 48V Input Voltage, SIP
pins: 1 +Vin, 2 -Vin, 4 -Vout, 5 0V, 6 +Vout

## IH4803SH
designator *  value IH4803SH  Reference: PS
XP Power 2W, 3000-6000 VDC Isolated DC/DC Converter Module, Dual Output Voltage ±3.3V, ±200mA, 48V Input Voltage, SIP; ki_keywords: XP_POWER DC/DC isolated Converter module; ki_fp_filters: *XP?POWER?IHxxxxSH*; Footprint: Converter_DCDC:Converter_DCDC_XP_POWER-IHxxxxSH_THT; Datasheet: https://www.xppower.com/pdfs/SF_IH.pdf; Description_: XP Power 2W, 3000-6000 VDC Isolated DC/DC Converter Module, Dual Output Voltage ±3.3V, ±200mA, 48V Input Voltage, SIP
pins: 1 +Vin, 2 -Vin, 4 -Vout, 5 0V, 6 +Vout

## IH4805D
designator *  value IH4805D  Reference: PS
XP Power 2W, 1000 VDC Isolated DC/DC Converter Module, Dual Output Voltage ±5V, ±200mA, 48V Input Voltage, DIP; ki_keywords: XP_POWER DC/DC isolated Converter module; ki_fp_filters: *XP?POWER?IHxxxxD*; Footprint: Converter_DCDC:Converter_DCDC_XP_POWER-IHxxxxD_THT; Datasheet: https://www.xppower.com/pdfs/SF_IH.pdf; Description_: XP Power 2W, 1000 VDC Isolated DC/DC Converter Module, Dual Output Voltage ±5V, ±200mA, 48V Input Voltage, DIP
pins: 1 -Vin, 2 NC, 3 +Vin, 4 -Vout, 5 +Vout, 6 0V

## IH4805DH
designator *  value IH4805DH  Reference: PS
XP Power 2W, 3000-6000 VDC Isolated DC/DC Converter Module, Dual Output Voltage ±5V, ±200mA, 48V Input Voltage, DIP; ki_keywords: XP_POWER DC/DC isolated Converter module; ki_fp_filters: *XP?POWER?IHxxxxDH*; Footprint: Converter_DCDC:Converter_DCDC_XP_POWER-IHxxxxDH_THT; Datasheet: https://www.xppower.com/pdfs/SF_IH.pdf; Description_: XP Power 2W, 3000-6000 VDC Isolated DC/DC Converter Module, Dual Output Voltage ±5V, ±200mA, 48V Input Voltage, DIP
pins: 1 -Vin, 2 NC, 3 +Vin, 4 -Vout, 5 +Vout, 6 0V

## IH4805S
designator *  value IH4805S  Reference: PS
XP Power 2W, 1000 VDC Isolated DC/DC Converter Module, Dual Output Voltage ±5V, ±200mA, 48V Input Voltage, SIP; ki_keywords: XP_POWER DC/DC isolated Converter module; ki_fp_filters: *XP?POWER?IHxxxxS*; Footprint: Converter_DCDC:Converter_DCDC_XP_POWER-IHxxxxS_THT; Datasheet: https://www.xppower.com/pdfs/SF_IH.pdf; Description_: XP Power 2W, 1000 VDC Isolated DC/DC Converter Module, Dual Output Voltage ±5V, ±200mA, 48V Input Voltage, SIP
pins: 1 +Vin, 2 -Vin, 4 -Vout, 5 0V, 6 +Vout

## IH4805SH
designator *  value IH4805SH  Reference: PS
XP Power 2W, 3000-6000 VDC Isolated DC/DC Converter Module, Dual Output Voltage ±5V, ±200mA, 48V Input Voltage, SIP; ki_keywords: XP_POWER DC/DC isolated Converter module; ki_fp_filters: *XP?POWER?IHxxxxSH*; Footprint: Converter_DCDC:Converter_DCDC_XP_POWER-IHxxxxSH_THT; Datasheet: https://www.xppower.com/pdfs/SF_IH.pdf; Description_: XP Power 2W, 3000-6000 VDC Isolated DC/DC Converter Module, Dual Output Voltage ±5V, ±200mA, 48V Input Voltage, SIP
pins: 1 +Vin, 2 -Vin, 4 -Vout, 5 0V, 6 +Vout

## IH4809D
designator *  value IH4809D  Reference: PS
XP Power 2W, 1000 VDC Isolated DC/DC Converter Module, Dual Output Voltage ±9V, ±111mA, 48V Input Voltage, DIP; ki_keywords: XP_POWER DC/DC isolated Converter module; ki_fp_filters: *XP?POWER?IHxxxxD*; Footprint: Converter_DCDC:Converter_DCDC_XP_POWER-IHxxxxD_THT; Datasheet: https://www.xppower.com/pdfs/SF_IH.pdf; Description_: XP Power 2W, 1000 VDC Isolated DC/DC Converter Module, Dual Output Voltage ±9V, ±111mA, 48V Input Voltage, DIP
pins: 1 -Vin, 2 NC, 3 +Vin, 4 -Vout, 5 +Vout, 6 0V

## IH4809DH
designator *  value IH4809DH  Reference: PS
XP Power 2W, 3000-6000 VDC Isolated DC/DC Converter Module, Dual Output Voltage ±9V, ±111mA, 48V Input Voltage, DIP; ki_keywords: XP_POWER DC/DC isolated Converter module; ki_fp_filters: *XP?POWER?IHxxxxDH*; Footprint: Converter_DCDC:Converter_DCDC_XP_POWER-IHxxxxDH_THT; Datasheet: https://www.xppower.com/pdfs/SF_IH.pdf; Description_: XP Power 2W, 3000-6000 VDC Isolated DC/DC Converter Module, Dual Output Voltage ±9V, ±111mA, 48V Input Voltage, DIP
pins: 1 -Vin, 2 NC, 3 +Vin, 4 -Vout, 5 +Vout, 6 0V

## IH4809S
designator *  value IH4809S  Reference: PS
XP Power 2W, 1000 VDC Isolated DC/DC Converter Module, Dual Output Voltage ±9V, ±111mA, 48V Input Voltage, SIP; ki_keywords: XP_POWER DC/DC isolated Converter module; ki_fp_filters: *XP?POWER?IHxxxxS*; Footprint: Converter_DCDC:Converter_DCDC_XP_POWER-IHxxxxS_THT; Datasheet: https://www.xppower.com/pdfs/SF_IH.pdf; Description_: XP Power 2W, 1000 VDC Isolated DC/DC Converter Module, Dual Output Voltage ±9V, ±111mA, 48V Input Voltage, SIP
pins: 1 +Vin, 2 -Vin, 4 -Vout, 5 0V, 6 +Vout

## IH4809SH
designator *  value IH4809SH  Reference: PS
XP Power 2W, 3000-6000 VDC Isolated DC/DC Converter Module, Dual Output Voltage ±9V, ±111mA, 48V Input Voltage, SIP; ki_keywords: XP_POWER DC/DC isolated Converter module; ki_fp_filters: *XP?POWER?IHxxxxSH*; Footprint: Converter_DCDC:Converter_DCDC_XP_POWER-IHxxxxSH_THT; Datasheet: https://www.xppower.com/pdfs/SF_IH.pdf; Description_: XP Power 2W, 3000-6000 VDC Isolated DC/DC Converter Module, Dual Output Voltage ±9V, ±111mA, 48V Input Voltage, SIP
pins: 1 +Vin, 2 -Vin, 4 -Vout, 5 0V, 6 +Vout

## IH4812D
designator *  value IH4812D  Reference: PS
XP Power 2W, 1000 VDC Isolated DC/DC Converter Module, Dual Output Voltage ±12V, ±84mA, 48V Input Voltage, DIP; ki_keywords: XP_POWER DC/DC isolated Converter module; ki_fp_filters: *XP?POWER?IHxxxxD*; Footprint: Converter_DCDC:Converter_DCDC_XP_POWER-IHxxxxD_THT; Datasheet: https://www.xppower.com/pdfs/SF_IH.pdf; Description_: XP Power 2W, 1000 VDC Isolated DC/DC Converter Module, Dual Output Voltage ±12V, ±84mA, 48V Input Voltage, DIP
pins: 1 -Vin, 2 NC, 3 +Vin, 4 -Vout, 5 +Vout, 6 0V

## IH4812DH
designator *  value IH4812DH  Reference: PS
XP Power 2W, 3000-6000 VDC Isolated DC/DC Converter Module, Dual Output Voltage ±12V, ±84mA, 48V Input Voltage, DIP; ki_keywords: XP_POWER DC/DC isolated Converter module; ki_fp_filters: *XP?POWER?IHxxxxDH*; Footprint: Converter_DCDC:Converter_DCDC_XP_POWER-IHxxxxDH_THT; Datasheet: https://www.xppower.com/pdfs/SF_IH.pdf; Description_: XP Power 2W, 3000-6000 VDC Isolated DC/DC Converter Module, Dual Output Voltage ±12V, ±84mA, 48V Input Voltage, DIP
pins: 1 -Vin, 2 NC, 3 +Vin, 4 -Vout, 5 +Vout, 6 0V

## IH4812S
designator *  value IH4812S  Reference: PS
XP Power 2W, 1000 VDC Isolated DC/DC Converter Module, Dual Output Voltage ±12V, ±84mA, 48V Input Voltage, SIP; ki_keywords: XP_POWER DC/DC isolated Converter module; ki_fp_filters: *XP?POWER?IHxxxxS*; Footprint: Converter_DCDC:Converter_DCDC_XP_POWER-IHxxxxS_THT; Datasheet: https://www.xppower.com/pdfs/SF_IH.pdf; Description_: XP Power 2W, 1000 VDC Isolated DC/DC Converter Module, Dual Output Voltage ±12V, ±84mA, 48V Input Voltage, SIP
pins: 1 +Vin, 2 -Vin, 4 -Vout, 5 0V, 6 +Vout

## IH4812SH
designator *  value IH4812SH  Reference: PS
XP Power 2W, 3000-6000 VDC Isolated DC/DC Converter Module, Dual Output Voltage ±12V, ±84mA, 48V Input Voltage, SIP; ki_keywords: XP_POWER DC/DC isolated Converter module; ki_fp_filters: *XP?POWER?IHxxxxSH*; Footprint: Converter_DCDC:Converter_DCDC_XP_POWER-IHxxxxSH_THT; Datasheet: https://www.xppower.com/pdfs/SF_IH.pdf; Description_: XP Power 2W, 3000-6000 VDC Isolated DC/DC Converter Module, Dual Output Voltage ±12V, ±84mA, 48V Input Voltage, SIP
pins: 1 +Vin, 2 -Vin, 4 -Vout, 5 0V, 6 +Vout

## IH4815D
designator *  value IH4815D  Reference: PS
XP Power 2W, 1000 VDC Isolated DC/DC Converter Module, Dual Output Voltage ±15V, ±66mA, 48V Input Voltage, DIP; ki_keywords: XP_POWER DC/DC isolated Converter module; ki_fp_filters: *XP?POWER?IHxxxxD*; Footprint: Converter_DCDC:Converter_DCDC_XP_POWER-IHxxxxD_THT; Datasheet: https://www.xppower.com/pdfs/SF_IH.pdf; Description_: XP Power 2W, 1000 VDC Isolated DC/DC Converter Module, Dual Output Voltage ±15V, ±66mA, 48V Input Voltage, DIP
pins: 1 -Vin, 2 NC, 3 +Vin, 4 -Vout, 5 +Vout, 6 0V

## IH4815DH
designator *  value IH4815DH  Reference: PS
XP Power 2W, 3000-6000 VDC Isolated DC/DC Converter Module, Dual Output Voltage ±15V, ±66mA, 48V Input Voltage, DIP; ki_keywords: XP_POWER DC/DC isolated Converter module; ki_fp_filters: *XP?POWER?IHxxxxDH*; Footprint: Converter_DCDC:Converter_DCDC_XP_POWER-IHxxxxDH_THT; Datasheet: https://www.xppower.com/pdfs/SF_IH.pdf; Description_: XP Power 2W, 3000-6000 VDC Isolated DC/DC Converter Module, Dual Output Voltage ±15V, ±66mA, 48V Input Voltage, DIP
pins: 1 -Vin, 2 NC, 3 +Vin, 4 -Vout, 5 +Vout, 6 0V

## IH4815S
designator *  value IH4815S  Reference: PS
XP Power 2W, 1000 VDC Isolated DC/DC Converter Module, Dual Output Voltage ±15V, ±66mA, 48V Input Voltage, SIP; ki_keywords: XP_POWER DC/DC isolated Converter module; ki_fp_filters: *XP?POWER?IHxxxxS*; Footprint: Converter_DCDC:Converter_DCDC_XP_POWER-IHxxxxS_THT; Datasheet: https://www.xppower.com/pdfs/SF_IH.pdf; Description_: XP Power 2W, 1000 VDC Isolated DC/DC Converter Module, Dual Output Voltage ±15V, ±66mA, 48V Input Voltage, SIP
pins: 1 +Vin, 2 -Vin, 4 -Vout, 5 0V, 6 +Vout

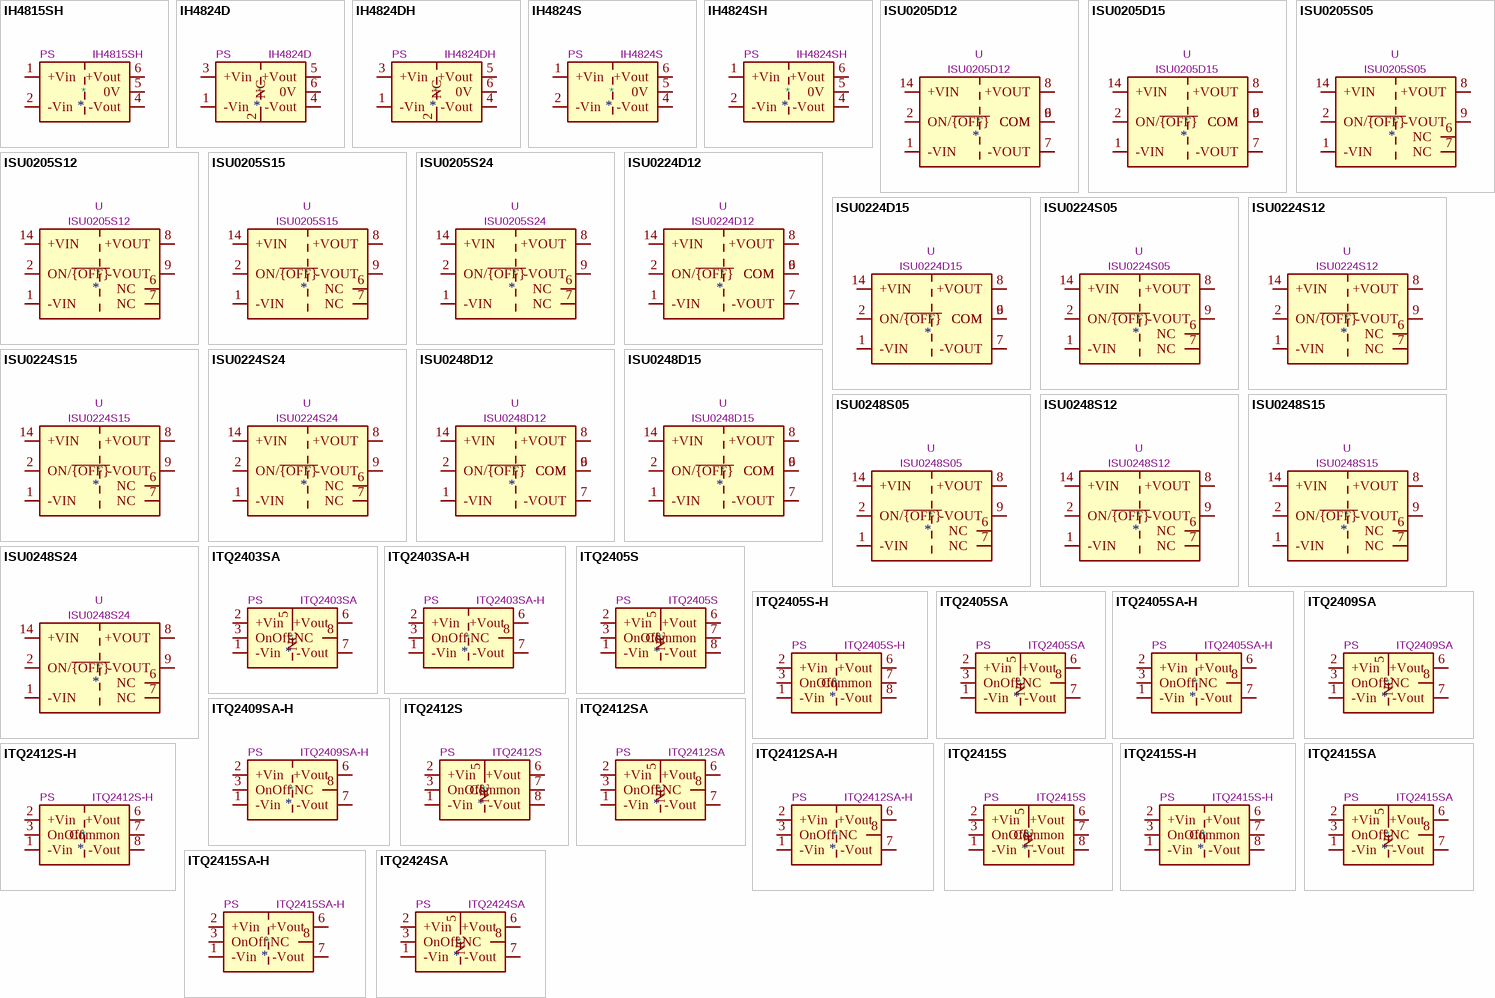
[diagram p4: symbols IH4815SH to ITQ2424SA]

## IH4815SH
designator *  value IH4815SH  Reference: PS
XP Power 2W, 3000-6000 VDC Isolated DC/DC Converter Module, Dual Output Voltage ±15V, ±66mA, 48V Input Voltage, SIP; ki_keywords: XP_POWER DC/DC isolated Converter module; ki_fp_filters: *XP?POWER?IHxxxxSH*; Footprint: Converter_DCDC:Converter_DCDC_XP_POWER-IHxxxxSH_THT; Datasheet: https://www.xppower.com/pdfs/SF_IH.pdf; Description_: XP Power 2W, 3000-6000 VDC Isolated DC/DC Converter Module, Dual Output Voltage ±15V, ±66mA, 48V Input Voltage, SIP
pins: 1 +Vin, 2 -Vin, 4 -Vout, 5 0V, 6 +Vout

## IH4824D
designator *  value IH4824D  Reference: PS
XP Power 2W, 1000 VDC Isolated DC/DC Converter Module, Dual Output Voltage ±24V, ±42mA, 48V Input Voltage, DIP; ki_keywords: XP_POWER DC/DC isolated Converter module; ki_fp_filters: *XP?POWER?IHxxxxD*; Footprint: Converter_DCDC:Converter_DCDC_XP_POWER-IHxxxxD_THT; Datasheet: https://www.xppower.com/pdfs/SF_IH.pdf; Description_: XP Power 2W, 1000 VDC Isolated DC/DC Converter Module, Dual Output Voltage ±24V, ±42mA, 48V Input Voltage, DIP
pins: 1 -Vin, 2 NC, 3 +Vin, 4 -Vout, 5 +Vout, 6 0V

## IH4824DH
designator *  value IH4824DH  Reference: PS
XP Power 2W, 3000-6000 VDC Isolated DC/DC Converter Module, Dual Output Voltage ±24V, ±42mA, 48V Input Voltage, DIP; ki_keywords: XP_POWER DC/DC isolated Converter module; ki_fp_filters: *XP?POWER?IHxxxxDH*; Footprint: Converter_DCDC:Converter_DCDC_XP_POWER-IHxxxxDH_THT; Datasheet: https://www.xppower.com/pdfs/SF_IH.pdf; Description_: XP Power 2W, 3000-6000 VDC Isolated DC/DC Converter Module, Dual Output Voltage ±24V, ±42mA, 48V Input Voltage, DIP
pins: 1 -Vin, 2 NC, 3 +Vin, 4 -Vout, 5 +Vout, 6 0V

## IH4824S
designator *  value IH4824S  Reference: PS
XP Power 2W, 1000 VDC Isolated DC/DC Converter Module, Dual Output Voltage ±24V, ±42mA, 48V Input Voltage, SIP; ki_keywords: XP_POWER DC/DC isolated Converter module; ki_fp_filters: *XP?POWER?IHxxxxS*; Footprint: Converter_DCDC:Converter_DCDC_XP_POWER-IHxxxxS_THT; Datasheet: https://www.xppower.com/pdfs/SF_IH.pdf; Description_: XP Power 2W, 1000 VDC Isolated DC/DC Converter Module, Dual Output Voltage ±24V, ±42mA, 48V Input Voltage, SIP
pins: 1 +Vin, 2 -Vin, 4 -Vout, 5 0V, 6 +Vout

## IH4824SH
designator *  value IH4824SH  Reference: PS
XP Power 2W, 3000-6000 VDC Isolated DC/DC Converter Module, Dual Output Voltage ±24V, ±42mA, 48V Input Voltage, SIP; ki_keywords: XP_POWER DC/DC isolated Converter module; ki_fp_filters: *XP?POWER?IHxxxxSH*; Footprint: Converter_DCDC:Converter_DCDC_XP_POWER-IHxxxxSH_THT; Datasheet: https://www.xppower.com/pdfs/SF_IH.pdf; Description_: XP Power 2W, 3000-6000 VDC Isolated DC/DC Converter Module, Dual Output Voltage ±24V, ±42mA, 48V Input Voltage, SIP
pins: 1 +Vin, 2 -Vin, 4 -Vout, 5 0V, 6 +Vout

## ISU0205D12
designator *  value ISU0205D12  Reference: U
XP Power 2W Isolated DC/DC Dual Supply Converter Module, ±12V Output Voltage, 4.5-12V Input Voltage; ki_keywords: DC/DC Converter dual; ki_fp_filters: *XP?POWER*ISU02*SMD*; Footprint: Converter_DCDC:Converter_DCDC_XP_POWER-ISU02_SMD; Datasheet: https://www.xppower.com/Portals/0/pdfs/SF_ISU02.pdf; Description_: XP Power 2W Isolated DC/DC Dual Supply Converter Module, ±12V Output Voltage, 4.5-12V Input Voltage
pins: 1 -VIN, 2 ON/~{{OFF}}, 6 COM, 7 -VOUT, 8 +VOUT, 9 COM, 14 +VIN

## ISU0205D15
designator *  value ISU0205D15  Reference: U
XP Power 2W Isolated DC/DC Dual Supply Converter Module, ±15V Output Voltage, 4.5-12V Input Voltage; ki_keywords: DC/DC Converter dual; ki_fp_filters: *XP?POWER*ISU02*SMD*; Footprint: Converter_DCDC:Converter_DCDC_XP_POWER-ISU02_SMD; Datasheet: https://www.xppower.com/Portals/0/pdfs/SF_ISU02.pdf; Description_: XP Power 2W Isolated DC/DC Dual Supply Converter Module, ±15V Output Voltage, 4.5-12V Input Voltage
pins: 1 -VIN, 2 ON/~{{OFF}}, 6 COM, 7 -VOUT, 8 +VOUT, 9 COM, 14 +VIN

## ISU0205S05
designator *  value ISU0205S05  Reference: U
XP Power 2W Isolated DC/DC Converter Module, 5V Output Voltage, 4.5-12V Input Voltage; ki_fp_filters: *XP?POWER*ISU02*SMD*; Footprint: Converter_DCDC:Converter_DCDC_XP_POWER-ISU02_SMD; Datasheet: https://www.xppower.com/Portals/0/pdfs/SF_ISU02.pdf; Description_: XP Power 2W Isolated DC/DC Converter Module, 5V Output Voltage, 4.5-12V Input Voltage; ki_keywords: DC/DC Converter
pins: 1 -VIN, 2 ON/~{{OFF}}, 6 NC, 7 NC, 8 +VOUT, 9 -VOUT, 14 +VIN

## ISU0205S12
designator *  value ISU0205S12  Reference: U
XP Power 2W Isolated DC/DC Converter Module, 12V Output Voltage, 4.5-12V Input Voltage; ki_fp_filters: *XP?POWER*ISU02*SMD*; Footprint: Converter_DCDC:Converter_DCDC_XP_POWER-ISU02_SMD; Datasheet: https://www.xppower.com/Portals/0/pdfs/SF_ISU02.pdf; Description_: XP Power 2W Isolated DC/DC Converter Module, 12V Output Voltage, 4.5-12V Input Voltage; ki_keywords: DC/DC Converter
pins: 1 -VIN, 2 ON/~{{OFF}}, 6 NC, 7 NC, 8 +VOUT, 9 -VOUT, 14 +VIN

## ISU0205S15
designator *  value ISU0205S15  Reference: U
XP Power 2W Isolated DC/DC Converter Module, 15V Output Voltage, 4.5-12V Input Voltage; ki_fp_filters: *XP?POWER*ISU02*SMD*; Footprint: Converter_DCDC:Converter_DCDC_XP_POWER-ISU02_SMD; Datasheet: https://www.xppower.com/Portals/0/pdfs/SF_ISU02.pdf; Description_: XP Power 2W Isolated DC/DC Converter Module, 15V Output Voltage, 4.5-12V Input Voltage; ki_keywords: DC/DC Converter
pins: 1 -VIN, 2 ON/~{{OFF}}, 6 NC, 7 NC, 8 +VOUT, 9 -VOUT, 14 +VIN

## ISU0205S24
designator *  value ISU0205S24  Reference: U
XP Power 2W Isolated DC/DC Converter Module, 24V Output Voltage, 4.5-12V Input Voltage; ki_fp_filters: *XP?POWER*ISU02*SMD*; Footprint: Converter_DCDC:Converter_DCDC_XP_POWER-ISU02_SMD; Datasheet: https://www.xppower.com/Portals/0/pdfs/SF_ISU02.pdf; Description_: XP Power 2W Isolated DC/DC Converter Module, 24V Output Voltage, 4.5-12V Input Voltage; ki_keywords: DC/DC Converter
pins: 1 -VIN, 2 ON/~{{OFF}}, 6 NC, 7 NC, 8 +VOUT, 9 -VOUT, 14 +VIN

## ISU0224D12
designator *  value ISU0224D12  Reference: U
XP Power 2W Isolated DC/DC Dual Supply Converter Module, ±12V Output Voltage, 9-36V Input Voltage; ki_keywords: DC/DC Converter dual; ki_fp_filters: *XP?POWER*ISU02*SMD*; Footprint: Converter_DCDC:Converter_DCDC_XP_POWER-ISU02_SMD; Datasheet: https://www.xppower.com/Portals/0/pdfs/SF_ISU02.pdf; Description_: XP Power 2W Isolated DC/DC Dual Supply Converter Module, ±12V Output Voltage, 9-36V Input Voltage
pins: 1 -VIN, 2 ON/~{{OFF}}, 6 COM, 7 -VOUT, 8 +VOUT, 9 COM, 14 +VIN

## ISU0224D15
designator *  value ISU0224D15  Reference: U
XP Power 2W Isolated DC/DC Dual Supply Converter Module, ±15V Output Voltage, 9-36V Input Voltage; ki_keywords: DC/DC Converter dual; ki_fp_filters: *XP?POWER*ISU02*SMD*; Footprint: Converter_DCDC:Converter_DCDC_XP_POWER-ISU02_SMD; Datasheet: https://www.xppower.com/Portals/0/pdfs/SF_ISU02.pdf; Description_: XP Power 2W Isolated DC/DC Dual Supply Converter Module, ±15V Output Voltage, 9-36V Input Voltage
pins: 1 -VIN, 2 ON/~{{OFF}}, 6 COM, 7 -VOUT, 8 +VOUT, 9 COM, 14 +VIN

## ISU0224S05
designator *  value ISU0224S05  Reference: U
XP Power 2W Isolated DC/DC Converter Module, 5V Output Voltage, 9-36V Input Voltage; ki_fp_filters: *XP?POWER*ISU02*SMD*; Footprint: Converter_DCDC:Converter_DCDC_XP_POWER-ISU02_SMD; Datasheet: https://www.xppower.com/Portals/0/pdfs/SF_ISU02.pdf; Description_: XP Power 2W Isolated DC/DC Converter Module, 5V Output Voltage, 9-36V Input Voltage; ki_keywords: DC/DC Converter
pins: 1 -VIN, 2 ON/~{{OFF}}, 6 NC, 7 NC, 8 +VOUT, 9 -VOUT, 14 +VIN

## ISU0224S12
designator *  value ISU0224S12  Reference: U
XP Power 2W Isolated DC/DC Converter Module, 12V Output Voltage, 9-36V Input Voltage; ki_fp_filters: *XP?POWER*ISU02*SMD*; Footprint: Converter_DCDC:Converter_DCDC_XP_POWER-ISU02_SMD; Datasheet: https://www.xppower.com/Portals/0/pdfs/SF_ISU02.pdf; Description_: XP Power 2W Isolated DC/DC Converter Module, 12V Output Voltage, 9-36V Input Voltage; ki_keywords: DC/DC Converter
pins: 1 -VIN, 2 ON/~{{OFF}}, 6 NC, 7 NC, 8 +VOUT, 9 -VOUT, 14 +VIN

## ISU0224S15
designator *  value ISU0224S15  Reference: U
XP Power 2W Isolated DC/DC Converter Module, 15V Output Voltage, 9-36V Input Voltage; ki_fp_filters: *XP?POWER*ISU02*SMD*; Footprint: Converter_DCDC:Converter_DCDC_XP_POWER-ISU02_SMD; Datasheet: https://www.xppower.com/Portals/0/pdfs/SF_ISU02.pdf; Description_: XP Power 2W Isolated DC/DC Converter Module, 15V Output Voltage, 9-36V Input Voltage; ki_keywords: DC/DC Converter
pins: 1 -VIN, 2 ON/~{{OFF}}, 6 NC, 7 NC, 8 +VOUT, 9 -VOUT, 14 +VIN

## ISU0224S24
designator *  value ISU0224S24  Reference: U
XP Power 2W Isolated DC/DC Converter Module, 24V Output Voltage, 9-36V Input Voltage; ki_fp_filters: *XP?POWER*ISU02*SMD*; Footprint: Converter_DCDC:Converter_DCDC_XP_POWER-ISU02_SMD; Datasheet: https://www.xppower.com/Portals/0/pdfs/SF_ISU02.pdf; Description_: XP Power 2W Isolated DC/DC Converter Module, 24V Output Voltage, 9-36V Input Voltage; ki_keywords: DC/DC Converter
pins: 1 -VIN, 2 ON/~{{OFF}}, 6 NC, 7 NC, 8 +VOUT, 9 -VOUT, 14 +VIN

## ISU0248D12
designator *  value ISU0248D12  Reference: U
XP Power 2W Isolated DC/DC Dual Supply Converter Module, ±12V Output Voltage, 18-75V Input Voltage; ki_keywords: DC/DC Converter dual; ki_fp_filters: *XP?POWER*ISU02*SMD*; Footprint: Converter_DCDC:Converter_DCDC_XP_POWER-ISU02_SMD; Datasheet: https://www.xppower.com/Portals/0/pdfs/SF_ISU02.pdf; Description_: XP Power 2W Isolated DC/DC Dual Supply Converter Module, ±12V Output Voltage, 18-75V Input Voltage
pins: 1 -VIN, 2 ON/~{{OFF}}, 6 COM, 7 -VOUT, 8 +VOUT, 9 COM, 14 +VIN

## ISU0248D15
designator *  value ISU0248D15  Reference: U
XP Power 2W Isolated DC/DC Dual Supply Converter Module, ±15V Output Voltage, 18-75V Input Voltage; ki_keywords: DC/DC Converter dual; ki_fp_filters: *XP?POWER*ISU02*SMD*; Footprint: Converter_DCDC:Converter_DCDC_XP_POWER-ISU02_SMD; Datasheet: https://www.xppower.com/Portals/0/pdfs/SF_ISU02.pdf; Description_: XP Power 2W Isolated DC/DC Dual Supply Converter Module, ±15V Output Voltage, 18-75V Input Voltage
pins: 1 -VIN, 2 ON/~{{OFF}}, 6 COM, 7 -VOUT, 8 +VOUT, 9 COM, 14 +VIN

## ISU0248S05
designator *  value ISU0248S05  Reference: U
XP Power 2W Isolated DC/DC Converter Module, 5V Output Voltage, 18-75V Input Voltage; ki_fp_filters: *XP?POWER*ISU02*SMD*; Footprint: Converter_DCDC:Converter_DCDC_XP_POWER-ISU02_SMD; Datasheet: https://www.xppower.com/Portals/0/pdfs/SF_ISU02.pdf; Description_: XP Power 2W Isolated DC/DC Converter Module, 5V Output Voltage, 18-75V Input Voltage; ki_keywords: DC/DC Converter
pins: 1 -VIN, 2 ON/~{{OFF}}, 6 NC, 7 NC, 8 +VOUT, 9 -VOUT, 14 +VIN

## ISU0248S12
designator *  value ISU0248S12  Reference: U
XP Power 2W Isolated DC/DC Converter Module, 12V Output Voltage, 18-75V Input Voltage; ki_fp_filters: *XP?POWER*ISU02*SMD*; Footprint: Converter_DCDC:Converter_DCDC_XP_POWER-ISU02_SMD; Datasheet: https://www.xppower.com/Portals/0/pdfs/SF_ISU02.pdf; Description_: XP Power 2W Isolated DC/DC Converter Module, 12V Output Voltage, 18-75V Input Voltage; ki_keywords: DC/DC Converter
pins: 1 -VIN, 2 ON/~{{OFF}}, 6 NC, 7 NC, 8 +VOUT, 9 -VOUT, 14 +VIN

## ISU0248S15
designator *  value ISU0248S15  Reference: U
XP Power 2W Isolated DC/DC Converter Module, 15V Output Voltage, 18-75V Input Voltage; ki_fp_filters: *XP?POWER*ISU02*SMD*; Footprint: Converter_DCDC:Converter_DCDC_XP_POWER-ISU02_SMD; Datasheet: https://www.xppower.com/Portals/0/pdfs/SF_ISU02.pdf; Description_: XP Power 2W Isolated DC/DC Converter Module, 15V Output Voltage, 18-75V Input Voltage; ki_keywords: DC/DC Converter
pins: 1 -VIN, 2 ON/~{{OFF}}, 6 NC, 7 NC, 8 +VOUT, 9 -VOUT, 14 +VIN